# Altium footprint library EISI.PcbLib: 695 footprints (part 3 of 44)
Each footprint in its own frame and in the unit in brackets; x right, y up, seen from the top. Pads: shape width x height; smd on the part's side, far side on the other; paste and mask are expansions set on the pad; w line width, h text height; cw(c..) or ccw(c..) is an arc to the next point about the centre after c.
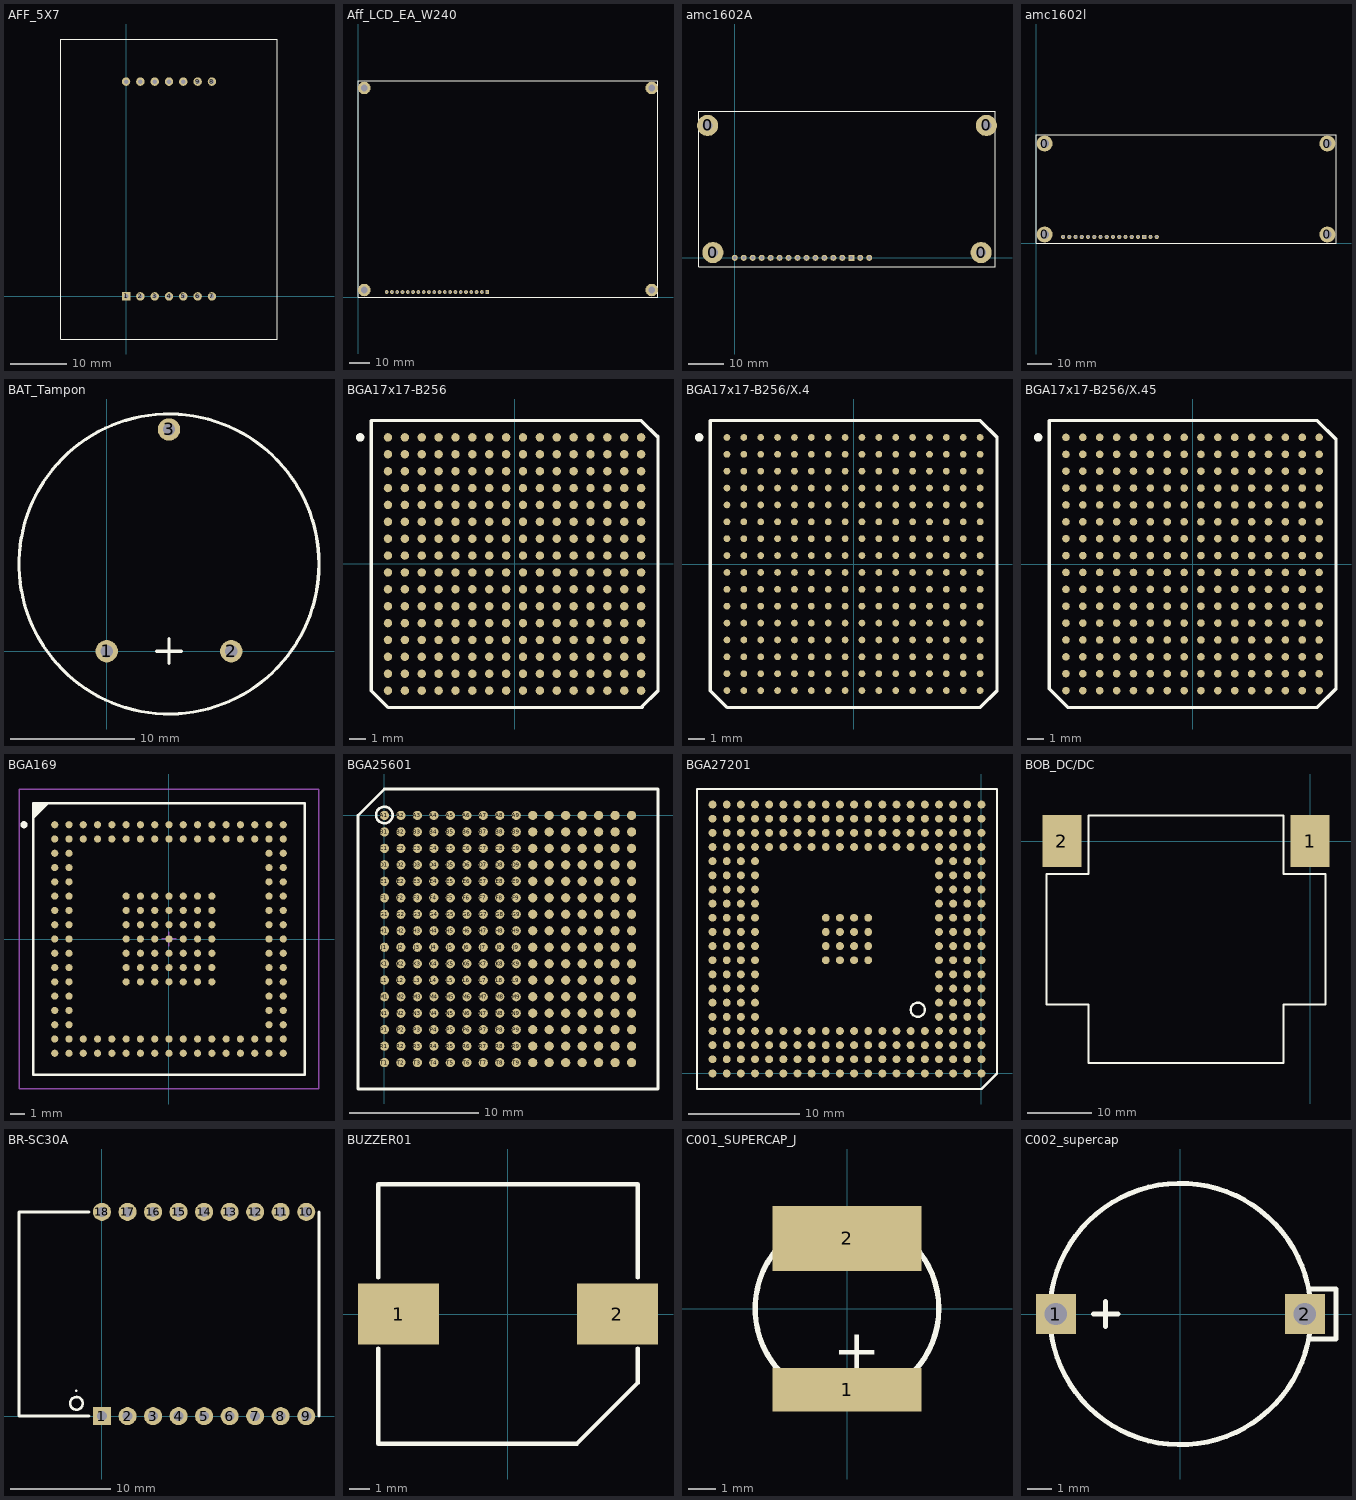
[diagram p2: the footprints below, top view; thin cyan lines are the x and y axes]

## AFF_5X7 [mm]
pads (14):
  rect 1.5x1.5 hole 0.8: 1(-0.01,-0.003)
  round 1.5 hole 0.8: 2(2.53,-0.003) 3(5.07,-0.003) 4(7.61,-0.003) 5(10.15,-0.003) 6(12.69,-0.003) 7(15.23,-0.003) 8(15.23,38.097) 9(12.69,38.097) 10(10.15,38.097) 11(7.61,38.097) 12(5.07,38.097) 13(2.53,38.097) 14(-0.01,38.097)
TopOverlay:
  lines w0.2: -11.59,-7.553 -11.59,45.647 26.81,45.647 26.81,-7.553 -11.59,-7.553

## Aff_LCD_EA_W240 [mm] "Affichage LCD graphique 240x128 pixels"
pads (24):
  rect 1.8x1.8 hole 1: 1(62,2.54)
  round 1.8 hole 1: 2(59.46,2.54) 3(56.92,2.54) 4(54.38,2.54) 5(51.84,2.54) 6(49.3,2.54) 7(46.76,2.54) 8(44.22,2.54) 9(41.68,2.54) 10(39.14,2.54) 11(36.6,2.54) 12(34.06,2.54) 13(31.52,2.54) 14(28.98,2.54) 15(26.44,2.54) 16(23.9,2.54) 17(21.36,2.54) 18(18.82,2.54) 19(16.28,2.54) 20(13.74,2.54)
  round 6 hole 3.2: ""(3,3.5) ""(3,100.5) ""(141,3.5) ""(141,100.5)
TopOverlay:
  lines w0.3: 0,0 0,104 144,104 144,0 0,0

## amc1602A [mm] "LCD 16x2"
height 13.005
pads (20):
  round 6 hole 2.8: 0(-7.7,37.5) 0(-6.2,1.5) 0(69.8,1.5) 0(71.3,37.5)
  rect 1.7x1.7 hole 1: 1(33.02,0)
  round 1.7 hole 1: 2(30.48,0) 3(27.94,0) 4(25.4,0) 5(22.86,0) 6(20.32,0) 7(17.78,0) 8(15.24,0) 9(12.7,0) 10(10.16,0) 11(7.62,0) 12(5.08,0) 13(2.54,0) 14(0,0) 15(38.1,0) 16(35.56,0)
TopOverlay:
  lines w0.254: -10.2,-2.5 73.8,-2.5 73.8,41.5 -10.2,41.5 -10.2,-2.5

## amc1602l [mm]
pads (20):
  round 6.5 hole 3.5: 0(3.48,3.5) 0(3.48,40.5) 0(118.48,3.5) 0(118.48,40.5)
  rect 1.7x1.7 hole 1: 1(44,2.5)
  round 1.7 hole 1: 2(41.46,2.5) 3(38.92,2.5) 4(36.38,2.5) 5(33.84,2.5) 6(31.3,2.5) 7(28.76,2.5) 8(26.22,2.5) 9(23.68,2.5) 10(21.14,2.5) 11(18.6,2.5) 12(16.06,2.5) 13(13.52,2.5) 14(10.98,2.5) 15(46.54,2.5) 16(49.08,2.5)
TopOverlay:
  lines w0.254: -0.02,0 -0.02,44 121.98,44 121.98,0 -0.02,0

## BAT_Tampon [mm] "Batterie tampon au nickel cadnium"
height 4
pads (3):
  round 1.8 hole 1: 1(0,0) 2(10,0) 3(5,17.8)
TopOverlay:
  circle w0.254: c5,7 r12.042
  lines w0.25: 4,0 6,0 ; 5,-1 5,1 5,0

## BGA17x17-B256 [mm]
pads (256):
  round 0.5 smd: A1(-7.5,7.5) A2(-6.5,7.5) A3(-5.5,7.5) A4(-4.5,7.5) A5(-3.5,7.5) A6(-2.5,7.5) A7(-1.5,7.5) A8(-0.5,7.5) A9(0.5,7.5) A10(1.5,7.5) A11(2.5,7.5) A12(3.5,7.5) A13(4.5,7.5) A14(5.5,7.5) A15(6.5,7.5) A16(7.5,7.5) B1(-7.5,6.5) B2(-6.5,6.5) B3(-5.5,6.5) B4(-4.5,6.5) B5(-3.5,6.5) B6(-2.5,6.5) B7(-1.5,6.5) B8(-0.5,6.5) B9(0.5,6.5) B10(1.5,6.5) B11(2.5,6.5) B12(3.5,6.5) B13(4.5,6.5) B14(5.5,6.5) B15(6.5,6.5) B16(7.5,6.5) C1(-7.5,5.5) C2(-6.5,5.5) C3(-5.5,5.5) C4(-4.5,5.5) C5(-3.5,5.5) C6(-2.5,5.5) C7(-1.5,5.5) C8(-0.5,5.5) C9(0.5,5.5) C10(1.5,5.5) C11(2.5,5.5) C12(3.5,5.5) C13(4.5,5.5) C14(5.5,5.5) C15(6.5,5.5) C16(7.5,5.5) D1(-7.5,4.5) D2(-6.5,4.5) D3(-5.5,4.5) D4(-4.5,4.5) D5(-3.5,4.5) D6(-2.5,4.5) D7(-1.5,4.5) D8(-0.5,4.5) D9(0.5,4.5) D10(1.5,4.5) D11(2.5,4.5) D12(3.5,4.5) D13(4.5,4.5) D14(5.5,4.5) D15(6.5,4.5) D16(7.5,4.5) E1(-7.5,3.5) E2(-6.5,3.5) E3(-5.5,3.5) E4(-4.5,3.5) E5(-3.5,3.5) E6(-2.5,3.5) E7(-1.5,3.5) E8(-0.5,3.5) E9(0.5,3.5) E10(1.5,3.5) E11(2.5,3.5) E12(3.5,3.5) E13(4.5,3.5) E14(5.5,3.5) E15(6.5,3.5) E16(7.5,3.5) F1(-7.5,2.5) F2(-6.5,2.5) F3(-5.5,2.5) F4(-4.5,2.5) F5(-3.5,2.5) F6(-2.5,2.5) F7(-1.5,2.5) F8(-0.5,2.5) F9(0.5,2.5) F10(1.5,2.5) F11(2.5,2.5) F12(3.5,2.5) F13(4.5,2.5) F14(5.5,2.5) F15(6.5,2.5) F16(7.5,2.5) G1(-7.5,1.5) G2(-6.5,1.5) G3(-5.5,1.5) G4(-4.5,1.5) G5(-3.5,1.5) G6(-2.5,1.5) G7(-1.5,1.5) G8(-0.5,1.5) G9(0.5,1.5) G10(1.5,1.5) G11(2.5,1.5) G12(3.5,1.5) G13(4.5,1.5) G14(5.5,1.5) G15(6.5,1.5) G16(7.5,1.5) H1(-7.5,0.5) H2(-6.5,0.5) H3(-5.5,0.5) H4(-4.5,0.5) H5(-3.5,0.5) H6(-2.5,0.5) H7(-1.5,0.5) H8(-0.5,0.5) H9(0.5,0.5) H10(1.5,0.5) H11(2.5,0.5) H12(3.5,0.5) H13(4.5,0.5) H14(5.5,0.5) H15(6.5,0.5) H16(7.5,0.5) J1(-7.5,-0.5) J2(-6.5,-0.5) J3(-5.5,-0.5) J4(-4.5,-0.5) J5(-3.5,-0.5) J6(-2.5,-0.5) J7(-1.5,-0.5) J8(-0.5,-0.5) J9(0.5,-0.5) J10(1.5,-0.5) J11(2.5,-0.5) J12(3.5,-0.5) J13(4.5,-0.5) J14(5.5,-0.5) J15(6.5,-0.5) J16(7.5,-0.5) K1(-7.5,-1.5) K2(-6.5,-1.5) K3(-5.5,-1.5) K4(-4.5,-1.5) K5(-3.5,-1.5) K6(-2.5,-1.5) K7(-1.5,-1.5) K8(-0.5,-1.5) K9(0.5,-1.5) K10(1.5,-1.5) K11(2.5,-1.5) K12(3.5,-1.5) K13(4.5,-1.5) K14(5.5,-1.5) K15(6.5,-1.5) K16(7.5,-1.5) L1(-7.5,-2.5) L2(-6.5,-2.5) L3(-5.5,-2.5) L4(-4.5,-2.5) L5(-3.5,-2.5) L6(-2.5,-2.5) L7(-1.5,-2.5) L8(-0.5,-2.5) L9(0.5,-2.5) L10(1.5,-2.5) L11(2.5,-2.5) L12(3.5,-2.5) L13(4.5,-2.5) L14(5.5,-2.5) L15(6.5,-2.5) L16(7.5,-2.5) M1(-7.5,-3.5) M2(-6.5,-3.5) M3(-5.5,-3.5) M4(-4.5,-3.5) M5(-3.5,-3.5) M6(-2.5,-3.5) M7(-1.5,-3.5) M8(-0.5,-3.5) M9(0.5,-3.5) M10(1.5,-3.5) M11(2.5,-3.5) M12(3.5,-3.5) M13(4.5,-3.5) M14(5.5,-3.5) M15(6.5,-3.5) M16(7.5,-3.5) N1(-7.5,-4.5) N2(-6.5,-4.5) N3(-5.5,-4.5) N4(-4.5,-4.5) N5(-3.5,-4.5) N6(-2.5,-4.5) N7(-1.5,-4.5) N8(-0.5,-4.5) N9(0.5,-4.5) N10(1.5,-4.5) N11(2.5,-4.5) N12(3.5,-4.5) N13(4.5,-4.5) N14(5.5,-4.5) N15(6.5,-4.5) N16(7.5,-4.5) P1(-7.5,-5.5) P2(-6.5,-5.5) P3(-5.5,-5.5) P4(-4.5,-5.5) P5(-3.5,-5.5) P6(-2.5,-5.5) P7(-1.5,-5.5) P8(-0.5,-5.5) P9(0.5,-5.5) P10(1.5,-5.5) P11(2.5,-5.5) P12(3.5,-5.5) P13(4.5,-5.5) P14(5.5,-5.5) P15(6.5,-5.5) P16(7.5,-5.5) R1(-7.5,-6.5) R2(-6.5,-6.5) R3(-5.5,-6.5) R4(-4.5,-6.5) R5(-3.5,-6.5) R6(-2.5,-6.5) R7(-1.5,-6.5) R8(-0.5,-6.5) R9(0.5,-6.5) R10(1.5,-6.5) R11(2.5,-6.5) R12(3.5,-6.5) R13(4.5,-6.5) R14(5.5,-6.5) R15(6.5,-6.5) R16(7.5,-6.5) T1(-7.5,-7.5) T2(-6.5,-7.5) T3(-5.5,-7.5) T4(-4.5,-7.5) T5(-3.5,-7.5) T6(-2.5,-7.5) T7(-1.5,-7.5) T8(-0.5,-7.5) T9(0.5,-7.5) T10(1.5,-7.5) T11(2.5,-7.5) T12(3.5,-7.5) T13(4.5,-7.5) T14(5.5,-7.5) T15(6.5,-7.5) T16(7.5,-7.5)
TopOverlay:
  circle w0.25: c-9.15,7.5 r0.125
  lines w0.2: -8.5,-7.5 -7.5,-8.5 7.5,-8.5 8.5,-7.5 8.5,7.5 7.5,8.5 -8.5,8.5 -8.5,-7.5 ; 7.581,-8.5 7.581,-8.5 ; 8.5,7.581 8.5,7.581

## BGA17x17-B256/X.4 [mm]
pads (256):
  round 0.4 smd: A1(-7.5,7.5) A2(-6.5,7.5) A3(-5.5,7.5) A4(-4.5,7.5) A5(-3.5,7.5) A6(-2.5,7.5) A7(-1.5,7.5) A8(-0.5,7.5) A9(0.5,7.5) A10(1.5,7.5) A11(2.5,7.5) A12(3.5,7.5) A13(4.5,7.5) A14(5.5,7.5) A15(6.5,7.5) A16(7.5,7.5) B1(-7.5,6.5) B2(-6.5,6.5) B3(-5.5,6.5) B4(-4.5,6.5) B5(-3.5,6.5) B6(-2.5,6.5) B7(-1.5,6.5) B8(-0.5,6.5) B9(0.5,6.5) B10(1.5,6.5) B11(2.5,6.5) B12(3.5,6.5) B13(4.5,6.5) B14(5.5,6.5) B15(6.5,6.5) B16(7.5,6.5) C1(-7.5,5.5) C2(-6.5,5.5) C3(-5.5,5.5) C4(-4.5,5.5) C5(-3.5,5.5) C6(-2.5,5.5) C7(-1.5,5.5) C8(-0.5,5.5) C9(0.5,5.5) C10(1.5,5.5) C11(2.5,5.5) C12(3.5,5.5) C13(4.5,5.5) C14(5.5,5.5) C15(6.5,5.5) C16(7.5,5.5) D1(-7.5,4.5) D2(-6.5,4.5) D3(-5.5,4.5) D4(-4.5,4.5) D5(-3.5,4.5) D6(-2.5,4.5) D7(-1.5,4.5) D8(-0.5,4.5) D9(0.5,4.5) D10(1.5,4.5) D11(2.5,4.5) D12(3.5,4.5) D13(4.5,4.5) D14(5.5,4.5) D15(6.5,4.5) D16(7.5,4.5) E1(-7.5,3.5) E2(-6.5,3.5) E3(-5.5,3.5) E4(-4.5,3.5) E5(-3.5,3.5) E6(-2.5,3.5) E7(-1.5,3.5) E8(-0.5,3.5) E9(0.5,3.5) E10(1.5,3.5) E11(2.5,3.5) E12(3.5,3.5) E13(4.5,3.5) E14(5.5,3.5) E15(6.5,3.5) E16(7.5,3.5) F1(-7.5,2.5) F2(-6.5,2.5) F3(-5.5,2.5) F4(-4.5,2.5) F5(-3.5,2.5) F6(-2.5,2.5) F7(-1.5,2.5) F8(-0.5,2.5) F9(0.5,2.5) F10(1.5,2.5) F11(2.5,2.5) F12(3.5,2.5) F13(4.5,2.5) F14(5.5,2.5) F15(6.5,2.5) F16(7.5,2.5) G1(-7.5,1.5) G2(-6.5,1.5) G3(-5.5,1.5) G4(-4.5,1.5) G5(-3.5,1.5) G6(-2.5,1.5) G7(-1.5,1.5) G8(-0.5,1.5) G9(0.5,1.5) G10(1.5,1.5) G11(2.5,1.5) G12(3.5,1.5) G13(4.5,1.5) G14(5.5,1.5) G15(6.5,1.5) G16(7.5,1.5) H1(-7.5,0.5) H2(-6.5,0.5) H3(-5.5,0.5) H4(-4.5,0.5) H5(-3.5,0.5) H6(-2.5,0.5) H7(-1.5,0.5) H8(-0.5,0.5) H9(0.5,0.5) H10(1.5,0.5) H11(2.5,0.5) H12(3.5,0.5) H13(4.5,0.5) H14(5.5,0.5) H15(6.5,0.5) H16(7.5,0.5) J1(-7.5,-0.5) J2(-6.5,-0.5) J3(-5.5,-0.5) J4(-4.5,-0.5) J5(-3.5,-0.5) J6(-2.5,-0.5) J7(-1.5,-0.5) J8(-0.5,-0.5) J9(0.5,-0.5) J10(1.5,-0.5) J11(2.5,-0.5) J12(3.5,-0.5) J13(4.5,-0.5) J14(5.5,-0.5) J15(6.5,-0.5) J16(7.5,-0.5) K1(-7.5,-1.5) K2(-6.5,-1.5) K3(-5.5,-1.5) K4(-4.5,-1.5) K5(-3.5,-1.5) K6(-2.5,-1.5) K7(-1.5,-1.5) K8(-0.5,-1.5) K9(0.5,-1.5) K10(1.5,-1.5) K11(2.5,-1.5) K12(3.5,-1.5) K13(4.5,-1.5) K14(5.5,-1.5) K15(6.5,-1.5) K16(7.5,-1.5) L1(-7.5,-2.5) L2(-6.5,-2.5) L3(-5.5,-2.5) L4(-4.5,-2.5) L5(-3.5,-2.5) L6(-2.5,-2.5) L7(-1.5,-2.5) L8(-0.5,-2.5) L9(0.5,-2.5) L10(1.5,-2.5) L11(2.5,-2.5) L12(3.5,-2.5) L13(4.5,-2.5) L14(5.5,-2.5) L15(6.5,-2.5) L16(7.5,-2.5) M1(-7.5,-3.5) M2(-6.5,-3.5) M3(-5.5,-3.5) M4(-4.5,-3.5) M5(-3.5,-3.5) M6(-2.5,-3.5) M7(-1.5,-3.5) M8(-0.5,-3.5) M9(0.5,-3.5) M10(1.5,-3.5) M11(2.5,-3.5) M12(3.5,-3.5) M13(4.5,-3.5) M14(5.5,-3.5) M15(6.5,-3.5) M16(7.5,-3.5) N1(-7.5,-4.5) N2(-6.5,-4.5) N3(-5.5,-4.5) N4(-4.5,-4.5) N5(-3.5,-4.5) N6(-2.5,-4.5) N7(-1.5,-4.5) N8(-0.5,-4.5) N9(0.5,-4.5) N10(1.5,-4.5) N11(2.5,-4.5) N12(3.5,-4.5) N13(4.5,-4.5) N14(5.5,-4.5) N15(6.5,-4.5) N16(7.5,-4.5) P1(-7.5,-5.5) P2(-6.5,-5.5) P3(-5.5,-5.5) P4(-4.5,-5.5) P5(-3.5,-5.5) P6(-2.5,-5.5) P7(-1.5,-5.5) P8(-0.5,-5.5) P9(0.5,-5.5) P10(1.5,-5.5) P11(2.5,-5.5) P12(3.5,-5.5) P13(4.5,-5.5) P14(5.5,-5.5) P15(6.5,-5.5) P16(7.5,-5.5) R1(-7.5,-6.5) R2(-6.5,-6.5) R3(-5.5,-6.5) R4(-4.5,-6.5) R5(-3.5,-6.5) R6(-2.5,-6.5) R7(-1.5,-6.5) R8(-0.5,-6.5) R9(0.5,-6.5) R10(1.5,-6.5) R11(2.5,-6.5) R12(3.5,-6.5) R13(4.5,-6.5) R14(5.5,-6.5) R15(6.5,-6.5) R16(7.5,-6.5) T1(-7.5,-7.5) T2(-6.5,-7.5) T3(-5.5,-7.5) T4(-4.5,-7.5) T5(-3.5,-7.5) T6(-2.5,-7.5) T7(-1.5,-7.5) T8(-0.5,-7.5) T9(0.5,-7.5) T10(1.5,-7.5) T11(2.5,-7.5) T12(3.5,-7.5) T13(4.5,-7.5) T14(5.5,-7.5) T15(6.5,-7.5) T16(7.5,-7.5)
TopOverlay:
  circle w0.25: c-9.15,7.5 r0.125
  lines w0.2: -8.5,-7.5 -7.5,-8.5 7.5,-8.5 8.5,-7.5 8.5,7.5 7.5,8.5 -8.5,8.5 -8.5,-7.5

## BGA17x17-B256/X.45 [mm]
pads (256):
  round 0.45 smd: A1(-7.5,7.5) A2(-6.5,7.5) A3(-5.5,7.5) A4(-4.5,7.5) A5(-3.5,7.5) A6(-2.5,7.5) A7(-1.5,7.5) A8(-0.5,7.5) A9(0.5,7.5) A10(1.5,7.5) A11(2.5,7.5) A12(3.5,7.5) A13(4.5,7.5) A14(5.5,7.5) A15(6.5,7.5) A16(7.5,7.5) B1(-7.5,6.5) B2(-6.5,6.5) B3(-5.5,6.5) B4(-4.5,6.5) B5(-3.5,6.5) B6(-2.5,6.5) B7(-1.5,6.5) B8(-0.5,6.5) B9(0.5,6.5) B10(1.5,6.5) B11(2.5,6.5) B12(3.5,6.5) B13(4.5,6.5) B14(5.5,6.5) B15(6.5,6.5) B16(7.5,6.5) C1(-7.5,5.5) C2(-6.5,5.5) C3(-5.5,5.5) C4(-4.5,5.5) C5(-3.5,5.5) C6(-2.5,5.5) C7(-1.5,5.5) C8(-0.5,5.5) C9(0.5,5.5) C10(1.5,5.5) C11(2.5,5.5) C12(3.5,5.5) C13(4.5,5.5) C14(5.5,5.5) C15(6.5,5.5) C16(7.5,5.5) D1(-7.5,4.5) D2(-6.5,4.5) D3(-5.5,4.5) D4(-4.5,4.5) D5(-3.5,4.5) D6(-2.5,4.5) D7(-1.5,4.5) D8(-0.5,4.5) D9(0.5,4.5) D10(1.5,4.5) D11(2.5,4.5) D12(3.5,4.5) D13(4.5,4.5) D14(5.5,4.5) D15(6.5,4.5) D16(7.5,4.5) E1(-7.5,3.5) E2(-6.5,3.5) E3(-5.5,3.5) E4(-4.5,3.5) E5(-3.5,3.5) E6(-2.5,3.5) E7(-1.5,3.5) E8(-0.5,3.5) E9(0.5,3.5) E10(1.5,3.5) E11(2.5,3.5) E12(3.5,3.5) E13(4.5,3.5) E14(5.5,3.5) E15(6.5,3.5) E16(7.5,3.5) F1(-7.5,2.5) F2(-6.5,2.5) F3(-5.5,2.5) F4(-4.5,2.5) F5(-3.5,2.5) F6(-2.5,2.5) F7(-1.5,2.5) F8(-0.5,2.5) F9(0.5,2.5) F10(1.5,2.5) F11(2.5,2.5) F12(3.5,2.5) F13(4.5,2.5) F14(5.5,2.5) F15(6.5,2.5) F16(7.5,2.5) G1(-7.5,1.5) G2(-6.5,1.5) G3(-5.5,1.5) G4(-4.5,1.5) G5(-3.5,1.5) G6(-2.5,1.5) G7(-1.5,1.5) G8(-0.5,1.5) G9(0.5,1.5) G10(1.5,1.5) G11(2.5,1.5) G12(3.5,1.5) G13(4.5,1.5) G14(5.5,1.5) G15(6.5,1.5) G16(7.5,1.5) H1(-7.5,0.5) H2(-6.5,0.5) H3(-5.5,0.5) H4(-4.5,0.5) H5(-3.5,0.5) H6(-2.5,0.5) H7(-1.5,0.5) H8(-0.5,0.5) H9(0.5,0.5) H10(1.5,0.5) H11(2.5,0.5) H12(3.5,0.5) H13(4.5,0.5) H14(5.5,0.5) H15(6.5,0.5) H16(7.5,0.5) J1(-7.5,-0.5) J2(-6.5,-0.5) J3(-5.5,-0.5) J4(-4.5,-0.5) J5(-3.5,-0.5) J6(-2.5,-0.5) J7(-1.5,-0.5) J8(-0.5,-0.5) J9(0.5,-0.5) J10(1.5,-0.5) J11(2.5,-0.5) J12(3.5,-0.5) J13(4.5,-0.5) J14(5.5,-0.5) J15(6.5,-0.5) J16(7.5,-0.5) K1(-7.5,-1.5) K2(-6.5,-1.5) K3(-5.5,-1.5) K4(-4.5,-1.5) K5(-3.5,-1.5) K6(-2.5,-1.5) K7(-1.5,-1.5) K8(-0.5,-1.5) K9(0.5,-1.5) K10(1.5,-1.5) K11(2.5,-1.5) K12(3.5,-1.5) K13(4.5,-1.5) K14(5.5,-1.5) K15(6.5,-1.5) K16(7.5,-1.5) L1(-7.5,-2.5) L2(-6.5,-2.5) L3(-5.5,-2.5) L4(-4.5,-2.5) L5(-3.5,-2.5) L6(-2.5,-2.5) L7(-1.5,-2.5) L8(-0.5,-2.5) L9(0.5,-2.5) L10(1.5,-2.5) L11(2.5,-2.5) L12(3.5,-2.5) L13(4.5,-2.5) L14(5.5,-2.5) L15(6.5,-2.5) L16(7.5,-2.5) M1(-7.5,-3.5) M2(-6.5,-3.5) M3(-5.5,-3.5) M4(-4.5,-3.5) M5(-3.5,-3.5) M6(-2.5,-3.5) M7(-1.5,-3.5) M8(-0.5,-3.5) M9(0.5,-3.5) M10(1.5,-3.5) M11(2.5,-3.5) M12(3.5,-3.5) M13(4.5,-3.5) M14(5.5,-3.5) M15(6.5,-3.5) M16(7.5,-3.5) N1(-7.5,-4.5) N2(-6.5,-4.5) N3(-5.5,-4.5) N4(-4.5,-4.5) N5(-3.5,-4.5) N6(-2.5,-4.5) N7(-1.5,-4.5) N8(-0.5,-4.5) N9(0.5,-4.5) N10(1.5,-4.5) N11(2.5,-4.5) N12(3.5,-4.5) N13(4.5,-4.5) N14(5.5,-4.5) N15(6.5,-4.5) N16(7.5,-4.5) P1(-7.5,-5.5) P2(-6.5,-5.5) P3(-5.5,-5.5) P4(-4.5,-5.5) P5(-3.5,-5.5) P6(-2.5,-5.5) P7(-1.5,-5.5) P8(-0.5,-5.5) P9(0.5,-5.5) P10(1.5,-5.5) P11(2.5,-5.5) P12(3.5,-5.5) P13(4.5,-5.5) P14(5.5,-5.5) P15(6.5,-5.5) P16(7.5,-5.5) R1(-7.5,-6.5) R2(-6.5,-6.5) R3(-5.5,-6.5) R4(-4.5,-6.5) R5(-3.5,-6.5) R6(-2.5,-6.5) R7(-1.5,-6.5) R8(-0.5,-6.5) R9(0.5,-6.5) R10(1.5,-6.5) R11(2.5,-6.5) R12(3.5,-6.5) R13(4.5,-6.5) R14(5.5,-6.5) R15(6.5,-6.5) R16(7.5,-6.5) T1(-7.5,-7.5) T2(-6.5,-7.5) T3(-5.5,-7.5) T4(-4.5,-7.5) T5(-3.5,-7.5) T6(-2.5,-7.5) T7(-1.5,-7.5) T8(-0.5,-7.5) T9(0.5,-7.5) T10(1.5,-7.5) T11(2.5,-7.5) T12(3.5,-7.5) T13(4.5,-7.5) T14(5.5,-7.5) T15(6.5,-7.5) T16(7.5,-7.5)
TopOverlay:
  circle w0.25: c-9.15,7.5 r0.125
  lines w0.2: -8.5,-7.384 -8.5,8.5 7.384,8.5 8.5,7.384 8.5,-7.384 7.384,-8.5 -7.384,-8.5 -8.5,-7.384

## BGA169 [mm] "169-Ball Mini Plastic Ball Grid Array 1 mm Pitch"
height 2.5
pads (169):
  round 0.5 smd: A1(-8,8) A2(-7,8) A3(-6,8) A4(-5,8) A5(-4,8) A6(-3,8) A7(-2,8) A8(-1,8) A9(0,8) A10(1,8) A11(2,8) A12(3,8) A13(4,8) A14(5,8) A15(6,8) A16(7,8) A17(8,8) B1(-8,7) B2(-7,7) B3(-6,7) B4(-5,7) B5(-4,7) B6(-3,7) B7(-2,7) B8(-1,7) B9(0,7) B10(1,7) B11(2,7) B12(3,7) B13(4,7) B14(5,7) B15(6,7) B16(7,7) B17(8,7) C1(-8,6) C2(-7,6) C16(7,6) C17(8,6) D1(-8,5) D2(-7,5) D16(7,5) D17(8,5) E1(-8,4) E2(-7,4) E16(7,4) E17(8,4) F1(-8,3) F2(-7,3) F6(-3,3) F7(-2,3) F8(-1,3) F9(0,3) F10(1,3) F11(2,3) F12(3,3) F16(7,3) F17(8,3) G1(-8,2) G2(-7,2) G6(-3,2) G7(-2,2) G8(-1,2) G9(0,2) G10(1,2) G11(2,2) G12(3,2) G16(7,2) G17(8,2) H1(-8,1) H2(-7,1) H6(-3,1) H7(-2,1) H8(-1,1) H9(0,1) H10(1,1) H11(2,1) H12(3,1) H16(7,1) H17(8,1) J1(-8,0) J2(-7,0) J6(-3,0) J7(-2,0) J8(-1,0) J9(0,0) J10(1,0) J11(2,0) J12(3,0) J16(7,0) J17(8,0) K1(-8,-1) K2(-7,-1) K6(-3,-1) K7(-2,-1) K8(-1,-1) K9(0,-1) K10(1,-1) K11(2,-1) K12(3,-1) K16(7,-1) K17(8,-1) L1(-8,-2) L2(-7,-2) L6(-3,-2) L7(-2,-2) L8(-1,-2) L9(0,-2) L10(1,-2) L11(2,-2) L12(3,-2) L16(7,-2) L17(8,-2) M1(-8,-3) M2(-7,-3) M6(-3,-3) M7(-2,-3) M8(-1,-3) M9(0,-3) M10(1,-3) M11(2,-3) M12(3,-3) M16(7,-3) M17(8,-3) N1(-8,-4) N2(-7,-4) N16(7,-4) N17(8,-4) P1(-8,-5) P2(-7,-5) P16(7,-5) P17(8,-5) R1(-8,-6) R2(-7,-6) R16(7,-6) R17(8,-6) T1(-8,-7) T2(-7,-7) T3(-6,-7) T4(-5,-7) T5(-4,-7) T6(-3,-7) T7(-2,-7) T8(-1,-7) T9(0,-7) T10(1,-7) T11(2,-7) T12(3,-7) T13(4,-7) T14(5,-7) T15(6,-7) T16(7,-7) T17(8,-7) U1(-8,-8) U2(-7,-8) U3(-6,-8) U4(-5,-8) U5(-4,-8) U6(-3,-8) U7(-2,-8) U8(-1,-8) U9(0,-8) U10(1,-8) U11(2,-8) U12(3,-8) U13(4,-8) U14(5,-8) U15(6,-8) U16(7,-8) U17(8,-8)
TopOverlay:
  circle w0.25: c-10.15,8 r0.125
  region: -8.5,9.5 -9.5,8.5 -9.5,9.5
  lines w0.2: -9.5,8.5 -8.5,9.5 ; -9.5,-9.5 9.5,-9.5 9.5,9.5 -9.5,9.5 -9.5,-9.5
Mechanical13:
  lines w0.1: -9.5,-9.5 9.5,-9.5 9.5,9.5 -9.5,9.5 -9.5,-9.5
Mechanical15:
  lines w0.1: -0.5,0 0.5,0 ; 0,-0.5 0,0.5 ; -10.5,-10.5 10.5,-10.5 10.5,10.5 -10.5,10.5 -10.5,-10.5
3D body: height 2.5, standoff 0, extent -9.5,-9.5 9.5,9.5

## BGA25601 [mil]
pads (256):
  round 28 smd: A1(0,0) A2(50,0) A3(100,0) A4(150,0) A5(200,0) A6(250,0) A7(300,0) A8(350,0) A9(400,0) A10(450,0) A11(500,0) A12(550,0) A13(600,0) A14(650,0) A15(700,0) A16(750,0) B1(0,-50) B2(50,-50) B3(100,-50) B4(150,-50) B5(200,-50) B6(250,-50) B7(300,-50) B8(350,-50) B9(400,-50) B10(450,-50) B11(500,-50) B12(550,-50) B13(600,-50) B14(650,-50) B15(700,-50) B16(750,-50) C1(0,-100) C2(50,-100) C3(100,-100) C4(150,-100) C5(200,-100) C6(250,-100) C7(300,-100) C8(350,-100) C9(400,-100) C10(450,-100) C11(500,-100) C12(550,-100) C13(600,-100) C14(650,-100) C15(700,-100) C16(750,-100) D1(0,-150) D2(50,-150) D3(100,-150) D4(150,-150) D5(200,-150) D6(250,-150) D7(300,-150) D8(350,-150) D9(400,-150) D10(450,-150) D11(500,-150) D12(550,-150) D13(600,-150) D14(650,-150) D15(700,-150) D16(750,-150) E1(0,-200) E2(50,-200) E3(100,-200) E4(150,-200) E5(200,-200) E6(250,-200) E7(300,-200) E8(350,-200) E9(400,-200) E10(450,-200) E11(500,-200) E12(550,-200) E13(600,-200) E14(650,-200) E15(700,-200) E16(750,-200) F1(0,-250) F2(50,-250) F3(100,-250) F4(150,-250) F5(200,-250) F6(250,-250) F7(300,-250) F8(350,-250) F9(400,-250) F10(450,-250) F11(500,-250) F12(550,-250) F13(600,-250) F14(650,-250) F15(700,-250) F16(750,-250) G1(0,-300) G2(50,-300) G3(100,-300) G4(150,-300) G5(200,-300) G6(250,-300) G7(300,-300) G8(350,-300) G9(400,-300) G10(450,-300) G11(500,-300) G12(550,-300) G13(600,-300) G14(650,-300) G15(700,-300) G16(750,-300) H1(0,-350) H2(50,-350) H3(100,-350) H4(150,-350) H5(200,-350) H6(250,-350) H7(300,-350) H8(350,-350) H9(400,-350) H10(450,-350) H11(500,-350) H12(550,-350) H13(600,-350) H14(650,-350) H15(700,-350) H16(750,-350) J1(0,-400) J2(50,-400) J3(100,-400) J4(150,-400) J5(200,-400) J6(250,-400) J7(300,-400) J8(350,-400) J9(400,-400) J10(450,-400) J11(500,-400) J12(550,-400) J13(600,-400) J14(650,-400) J15(700,-400) J16(750,-400) K1(0,-450) K2(50,-450) K3(100,-450) K4(150,-450) K5(200,-450) K6(250,-450) K7(300,-450) K8(350,-450) K9(400,-450) K10(450,-450) K11(500,-450) K12(550,-450) K13(600,-450) K14(650,-450) K15(700,-450) K16(750,-450) L1(0,-500) L2(50,-500) L3(100,-500) L4(150,-500) L5(200,-500) L6(250,-500) L7(300,-500) L8(350,-500) L9(400,-500) L10(450,-500) L11(500,-500) L12(550,-500) L13(600,-500) L14(650,-500) L15(700,-500) L16(750,-500) M1(0,-550) M2(50,-550) M3(100,-550) M4(150,-550) M5(200,-550) M6(250,-550) M7(300,-550) M8(350,-550) M9(400,-550) M10(450,-550) M11(500,-550) M12(550,-550) M13(600,-550) M14(650,-550) M15(700,-550) M16(750,-550) N1(0,-600) N2(50,-600) N3(100,-600) N4(150,-600) N5(200,-600) N6(250,-600) N7(300,-600) N8(350,-600) N9(400,-600) N10(450,-600) N11(500,-600) N12(550,-600) N13(600,-600) N14(650,-600) N15(700,-600) N16(750,-600) P1(0,-650) P2(50,-650) P3(100,-650) P4(150,-650) P5(200,-650) P6(250,-650) P7(300,-650) P8(350,-650) P9(400,-650) P10(450,-650) P11(500,-650) P12(550,-650) P13(600,-650) P14(650,-650) P15(700,-650) P16(750,-650) R1(0,-700) R2(50,-700) R3(100,-700) R4(150,-700) R5(200,-700) R6(250,-700) R7(300,-700) R8(350,-700) R9(400,-700) R10(450,-700) R11(500,-700) R12(550,-700) R13(600,-700) R14(650,-700) R15(700,-700) R16(750,-700) T1(0,-750) T2(50,-750) T3(100,-750) T4(150,-750) T5(200,-750) T6(250,-750) T7(300,-750) T8(350,-750) T9(400,-750) T10(450,-750) T11(500,-750) T12(550,-750) T13(600,-750) T14(650,-750) T15(700,-750) T16(750,-750)
TopOverlay:
  circle w8: c-0.08,1.06 r25
  circle w8: c-0.08,1.06 r25
  lines w7.87: -80,-830 830,-830 ; -80,-830 830,-830 ; -80,-830 -80,0 ; -80,-830 -80,0 ; -80,0 0,80 ; -80,0 0,80 ; 0,80 830,80 ; 0,80 830,80 ; 830,-830 830,80 ; 830,-830 830,80

## BGA27201 [mil]
pads (272):
  round 28 smd: A1(0,0) A2(-50,0) A3(-100,0) A4(-150,0) A5(-200,0) A6(-250,0) A7(-300,0) A8(-350,0) A9(-400,0) A10(-450,0) A11(-500,0) A12(-550,0) A13(-600,0) A14(-650,0) A15(-700,0) A16(-750,0) A17(-800,0) A18(-850,0) A19(-900,0) A20(-950,0) B1(0,50) B2(-50,50) B3(-100,50) B4(-150,50) B5(-200,50) B6(-250,50) B7(-300,50) B8(-350,50) B9(-400,50) B10(-450,50) B11(-500,50) B12(-550,50) B13(-600,50) B14(-650,50) B15(-700,50) B16(-750,50) B17(-800,50) B18(-850,50) B19(-900,50) B20(-950,50) C1(0,100) C2(-50,100) C3(-100,100) C4(-150,100) C5(-200,100) C6(-250,100) C7(-300,100) C8(-350,100) C9(-400,100) C10(-450,100) C11(-500,100) C12(-550,100) C13(-600,100) C14(-650,100) C15(-700,100) C16(-750,100) C17(-800,100) C18(-850,100) C19(-900,100) C20(-950,100) D1(0,150) D2(-50,150) D3(-100,150) D4(-150,150) D5(-200,150) D6(-250,150) D7(-300,150) D8(-350,150) D9(-400,150) D10(-450,150) D11(-500,150) D12(-550,150) D13(-600,150) D14(-650,150) D15(-700,150) D16(-750,150) D17(-800,150) D18(-850,150) D19(-900,150) D20(-950,150) E1(0,200) E2(-50,200) E3(-100,200) E4(-150,200) E17(-800,200) E18(-850,200) E19(-900,200) E20(-950,200) F1(0,250) F2(-50,250) F3(-100,250) F4(-150,250) F17(-800,250) F18(-850,250) F19(-900,250) F20(-950,250) G1(0,300) G2(-50,300) G3(-100,300) G4(-150,300) G17(-800,300) G18(-850,300) G19(-900,300) G20(-950,300) H1(0,350) H2(-50,350) H3(-100,350) H4(-150,350) H17(-800,350) H18(-850,350) H19(-900,350) H20(-950,350) J1(0,400) J2(-50,400) J3(-100,400) J4(-150,400) J9(-400,400) J10(-450,400) J11(-500,400) J12(-550,400) J17(-800,400) J18(-850,400) J19(-900,400) J20(-950,400) K1(0,450) K2(-50,450) K3(-100,450) K4(-150,450) K9(-400,450) K10(-450,450) K11(-500,450) K12(-550,450) K17(-800,450) K18(-850,450) K19(-900,450) K20(-950,450) L1(0,500) L2(-50,500) L3(-100,500) L4(-150,500) L9(-400,500) L10(-450,500) L11(-500,500) L12(-550,500) L17(-800,500) L18(-850,500) L19(-900,500) L20(-950,500) M1(0,550) M2(-50,550) M3(-100,550) M4(-150,550) M9(-400,550) M10(-450,550) M11(-500,550) M12(-550,550) M17(-800,550) M18(-850,550) M19(-900,550) M20(-950,550) N1(0,600) N2(-50,600) N3(-100,600) N4(-150,600) N17(-800,600) N18(-850,600) N19(-900,600) N20(-950,600) P1(0,650) P2(-50,650) P3(-100,650) P4(-150,650) P17(-800,650) P18(-850,650) P19(-900,650) P20(-950,650) R1(0,700) R2(-50,700) R3(-100,700) R4(-150,700) R17(-800,700) R18(-850,700) R19(-900,700) R20(-950,700) T1(0,750) T2(-50,750) T3(-100,750) T4(-150,750) T17(-800,750) T18(-850,750) T19(-900,750) T20(-950,750) U1(0,800) U2(-50,800) U3(-100,800) U4(-150,800) U5(-200,800) U6(-250,800) U7(-300,800) U8(-350,800) U9(-400,800) U10(-450,800) U11(-500,800) U12(-550,800) U13(-600,800) U14(-650,800) U15(-700,800) U16(-750,800) U17(-800,800) U18(-850,800) U19(-900,800) U20(-950,800) V1(0,850) V2(-50,850) V3(-100,850) V4(-150,850) V5(-200,850) V6(-250,850) V7(-300,850) V8(-350,850) V9(-400,850) V10(-450,850) V11(-500,850) V12(-550,850) V13(-600,850) V14(-650,850) V15(-700,850) V16(-750,850) V17(-800,850) V18(-850,850) V19(-900,850) V20(-950,850) W1(0,900) W2(-50,900) W3(-100,900) W4(-150,900) W5(-200,900) W6(-250,900) W7(-300,900) W8(-350,900) W9(-400,900) W10(-450,900) W11(-500,900) W12(-550,900) W13(-600,900) W14(-650,900) W15(-700,900) W16(-750,900) W17(-800,900) W18(-850,900) W19(-900,900) W20(-950,900) Y1(0,950) Y2(-50,950) Y3(-100,950) Y4(-150,950) Y5(-200,950) Y6(-250,950) Y7(-300,950) Y8(-350,950) Y9(-400,950) Y10(-450,950) Y11(-500,950) Y12(-550,950) Y13(-600,950) Y14(-650,950) Y15(-700,950) Y16(-750,950) Y17(-800,950) Y18(-850,950) Y19(-900,950) Y20(-950,950)
TopOverlay:
  circle w8: c-225,225 r25
  circle w8: c-225,225 r25
  lines w7.87: -1005,-55 -1005,1005 ; -1005,-55 0,-55 ; -1005,-55 -1005,1005 ; -1005,-55 0,-55 ; -1005,1005 55,1005 ; -1005,1005 55,1005 ; 0,-55 55,0 ; 0,-55 55,0 ; 55,0 55,1005 ; 55,0 55,1005

## BOB_DC/DC [mil]
pads (2):
  rect 235x315 smd: 1(0,0) 2(-1505,0)
TopOverlay:
  lines w12: -1600,-990 -1345,-990 -1345,-1345 -160,-1345 -160,-1090 -160,-990 95,-990 95,-200 -160,-200 -160,155 -1345,155 -1345,-200 -1600,-200 -1600,-990

## BR-SC30A [mm] "Bluetooth stamp  module"
height 5
pads (18):
  rect 1.8x1.8 hole 1: 1(0,0)
  round 1.8 hole 1: 2(2.54,0) 3(5.08,0) 4(7.62,0) 5(10.16,0) 6(12.7,0) 7(15.24,0) 8(17.78,0) 9(20.32,0) 10(20.32,20.32) 11(17.78,20.32) 12(15.24,20.32) 13(12.7,20.32) 14(10.16,20.32) 15(7.62,20.32) 16(5.08,20.32) 17(2.54,20.32) 18(0,20.32)
TopOverlay:
  circle w0.254: c-2.54,1.27 r0.635
  circle w0.254: c-2.54,2.54 r0
  lines w0.3: -1.27,0 -8.255,0 -8.255,20.32 -1.27,20.32 ; 21.59,0 21.59,20.32

## BUZZER01 [mm] "BUZZER MAGNET 12.8MM 4-7VDC SMD"
height 10
pads (2):
  rect 4x3 smd: 1(-5.4,0) 2(5.4,0)
TopOverlay:
  lines w0.2: -6.4,-1.7 -6.4,-6.4 3.4,-6.4 6.4,-3.4 6.4,-1.7 ; -6.4,1.8 -6.4,6.4 6.4,6.4 6.4,1.8

## C001_SUPERCAP_J [mm] "Supercap 0.2F type J2"
height 1.85
pads (2):
  rect 5.5x1.6 smd: 1(0,-3)
  rect 5.5x2.4 smd: 2(0,2.6)
TopOverlay:
  circle w0.2: c0,0 r3.4
  text "+" at -0.508,-2.286 h1.52

## C002_supercap [mm] "Supercap Panasonic RG serie 0.22F"
height 6
pads (2):
  rect 1.6x1.6 hole 0.9: 1(-5,0) 2(5,0)
TopOverlay:
  circle w0.2: c0,0 r5.25
  lines w0.2: -3.5,0 -2.5,0 ; -3,-0.5 -3,0.5 ; 5.175,-1 6.25,-1 6.25,1 5.175,1 6,1